# Altium footprint library SWTPcbLib1.PcbLib: 17 footprints (part 2 of 2)
Each footprint in its own frame and in the unit in brackets; x right, y up, seen from the top. Pads: shape width x height; smd on the part's side, far side on the other; paste and mask are expansions set on the pad; w line width, h text height; cw(c..) or ccw(c..) is an arc to the next point about the centre after c.
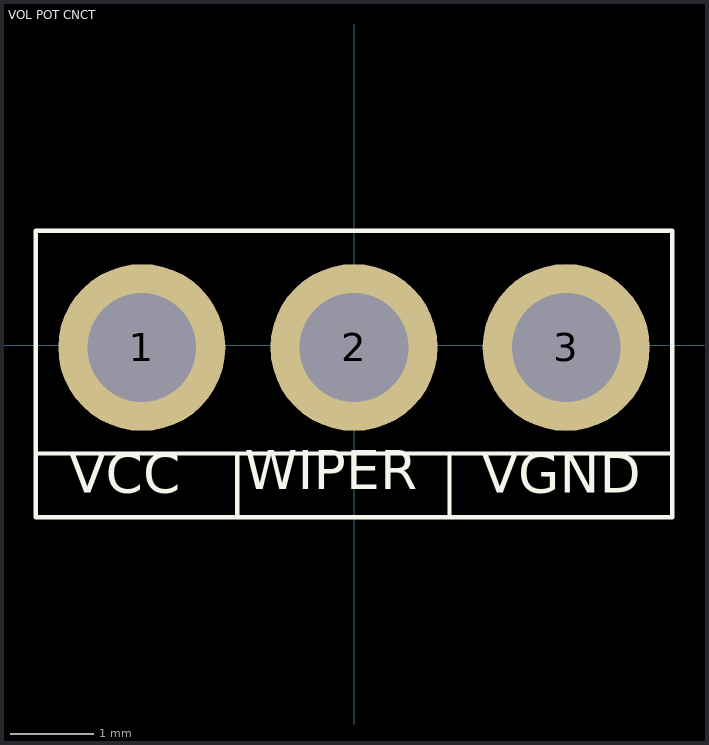
[diagram p1: the footprint, top view; thin cyan lines are the x and y axes]

## VOL POT CNCT [mm] "3xHeader for MAX9744 Module Volume Pot"
pads (3):
  round 2 hole 1.3: 1(-2.54,-0.025) 2(0,-0.025) 3(2.54,-0.025)
Top Overlay:
  lines w0.05: -1.397,-1.295 -1.397,-2.057 1.143,-2.057 1.143,-1.295 ; -3.81,-1.295 -3.81,-2.057 3.81,-2.057 3.81,-1.295 ; -3.81,-1.295 3.81,-1.295 ; -3.81,-1.295 -3.81,1.372 3.81,1.372 3.81,-1.295
  text "VGND" at 1.532,-1.922 h0.8
  text "WIPER" at -1.309,-1.88 h0.8
  text "VCC" at -3.408,-1.922 h0.8